# EAGLE library part CAT25256XI (library Catalyst_Semiconductor_By_element14_Batch_1)
256-Kb SPI Serial CMOS EEPROM
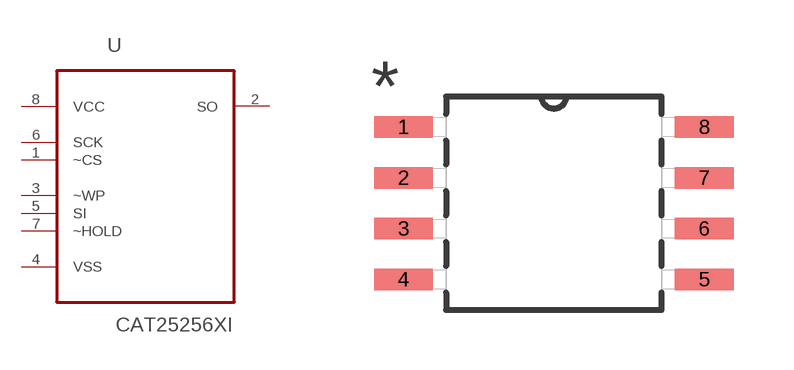
[diagram p14: symbol with the pads of SOIC127P800X200-8N; footprint SOIC127P800X200-8N]

Designator prefix U

## CAT25256XI (MPN: CAT25256XI; OC_FARNELL: 1667070; OC_NEWARK: 06R0617; PACKAGE: SOIC-8; SUPPLIER: CATALYST SEMICONDUCTOR)  [SOIC127P800X200-8N]
1  ~CS  in
2  SO  out
3  ~WP  in
4  VSS  pas
5  SI  in
6  SCK  in
7  ~HOLD  in
8  VCC  pwr

## Footprint SOIC127P800X200-8N (pad centres in mm)
smd 1.473 x 0.533: 1 -3.759,1.905; 2 -3.759,0.635; 3 -3.759,-0.635; 4 -3.759,-1.905; 5 3.759,-1.905; 6 3.759,-0.635; 7 3.759,0.635; 8 3.759,1.905